# Altium footprint library SamacSys.PcbLib: 9 footprints
Each footprint in its own frame and in the unit in brackets; x right, y up, seen from the top. Pads: shape width x height; smd on the part's side, far side on the other; paste and mask are expansions set on the pad; w line width, h text height; cw(c..) or ccw(c..) is an arc to the next point about the centre after c.
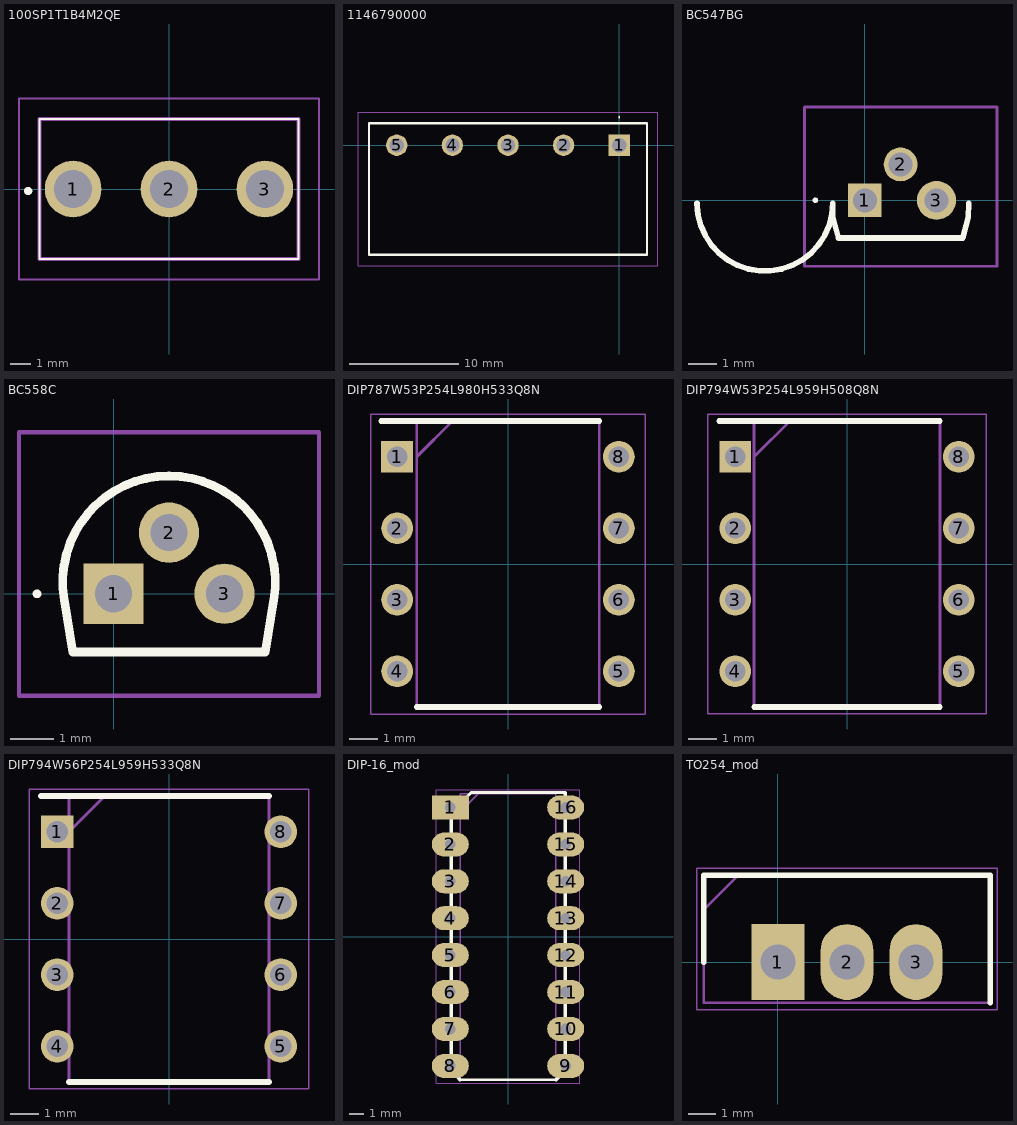
[diagram p0: the footprints below, top view; thin cyan lines are the x and y axes]

## 100SP1T1B4M2QE [mm]
pads (3):
  round 2.775 hole 1.85: 1(-4.7,0) 2(0,0) 3(4.7,0)
Top Overlay:
  lines w0.1: -6.35,-3.43 -6.35,3.43 6.35,3.43 6.35,-3.43 -6.35,-3.43
  lines w0.2: -6.9,-0.2 cw(c-6.9,-0.1) -6.9,0 cw(c-6.9,-0.1) -6.9,-0.2
Mechanical 13:
  lines w0.2: -6.35,-3.43 -6.35,3.43 6.35,3.43 6.35,-3.43 -6.35,-3.43
Mechanical 15:
  lines w0.1: -7.35,-4.43 -7.35,4.43 7.35,4.43 7.35,-4.43 -7.35,-4.43
3D body "100SP1T1B4M2QE.stp": height 29.45, standoff -5.32, extent -6.35,-3.43 6.35,3.43

## 1146790000 [mm]
pads (5):
  rect 1.95x1.95 hole 1.3: 1(0,0)
  round 1.95 hole 1.3: 2(-5.08,0) 3(-10.16,0) 4(-15.24,0) 5(-20.32,0)
Top Overlay:
  lines w0.1: 0,2.5 ccw(c0,2.55) 0,2.6 ccw(c0,2.55) 0,2.5
  lines w0.2: -22.86,-10 -22.86,2 2.54,2 2.54,-10 -22.86,-10
Mechanical 13:
  lines w0.1: -22.86,-10 -22.86,2 2.54,2 2.54,-10 -22.86,-10
Mechanical 15:
  lines w0.1: -23.86,-11 -23.86,3 3.54,3 3.54,-11 -23.86,-11
3D body "1146790000.stp": height 9.09, standoff -2.54, extent -22.76,-10 2.44,2

## BC547BG [mm]
pads (3):
  rect 1.2x1.2 hole 0.85: 1(0,0)
  round 1.2 hole 0.85: 2(1.27,1.27)
  round 1.381 hole 0.85: 3(2.54,0)
Top Overlay:
  lines w0.1: -1.8,0 cw(c-1.75,0) -1.7,0 cw(c-1.75,0) -1.8,0
  lines w0.2: -5.942,-0.1 ccw(c-3.536,-0.1) -1.13,-0.1 -1.13,-0.6 -0.93,-1.335 1.27,-1.335 3.47,-1.335 3.67,-0.6 3.683,-0.1
Mechanical 13:
  lines w0.1: -5.942,-0.1 ccw(c-3.536,-0.1) -1.13,-0.1 -1.13,-0.6 -0.93,-1.335 1.27,-1.335 3.47,-1.335 3.683,-0.6 3.683,-0.1
Mechanical 15:
  lines w0.1: -2.13,-2.335 -2.13,3.306 4.683,3.306 4.683,-2.335 -2.13,-2.335
3D body "BC547BG.stp": height 8.33, standoff -12.62, extent -3.869,-2.51 1.329,1.68

## BC558C [mm]
pads (3):
  rect 1.381x1.381 hole 0.85: 1(0,0)
  round 1.381 hole 0.85: 2(1.27,1.4) 3(2.54,0)
Top Overlay:
  lines w0.1: -1.8,0 cw(c-1.75,0) -1.7,0 cw(c-1.75,0) -1.8,0
  lines w0.2: -1.13,-0.135 -0.93,-1.335 3.47,-1.335 3.67,-0.135 ; -1.13,-0.137 cw(c1.27,0.265) 3.67,-0.132
Mechanical 13:
  lines w0.1: -1.13,-0.135 -0.93,-1.335 3.47,-1.335 3.67,-0.135 ; -1.13,-0.137 cw(c1.27,0.265) 3.67,-0.132
Mechanical 15:
  lines w0.1: -2.163,-2.335 -2.163,3.698 4.703,3.698 4.703,-2.335 -2.163,-2.335
3D body "BC558C.stp": height 0.1, standoff -5, extent -0.325,-0.323 2.865,1.723

## DIP787W53P254L980H533Q8N [mm]
pads (8):
  rect 1.13x1.13 hole 0.73: 1(-3.935,3.81)
  round 1.13 hole 0.73: 2(-3.935,1.27) 3(-3.935,-1.27) 4(-3.935,-3.81) 5(3.935,-3.81) 6(3.935,-1.27) 7(3.935,1.27) 8(3.935,3.81)
Top Overlay:
  lines w0.2: -4.5,5.075 3.24,5.075 ; -3.24,-5.075 3.24,-5.075
Mechanical 13:
  lines w0.1: -3.24,3.805 -1.97,5.075 ; -3.24,-5.075 3.24,-5.075 3.24,5.075 -3.24,5.075 -3.24,-5.075
Mechanical 15:
  lines w0.05: -4.875,-5.325 4.875,-5.325 4.875,5.325 -4.875,5.325 -4.875,-5.325
3D body "LM393N.stp": height 5.33, standoff -3.5, extent -4.068,-4.902 4.068,4.902

## DIP794W53P254L959H508Q8N [mm]
pads (8):
  rect 1.13x1.13 hole 0.73: 1(-3.97,3.81)
  round 1.13 hole 0.73: 2(-3.97,1.27) 3(-3.97,-1.27) 4(-3.97,-3.81) 5(3.97,-3.81) 6(3.97,-1.27) 7(3.97,1.27) 8(3.97,3.81)
Top Overlay:
  lines w0.2: -4.535,5.08 3.3,5.08 ; -3.3,-5.08 3.3,-5.08
Mechanical 13:
  lines w0.1: -3.3,3.81 -2.03,5.08 ; -3.3,-5.08 3.3,-5.08 3.3,5.08 -3.3,5.08 -3.3,-5.08
Mechanical 15:
  lines w0.05: -4.945,-5.33 4.945,-5.33 4.945,5.33 -4.945,5.33 -4.945,-5.33
3D body "TL082ACP.stp": height 4.21, standoff -3.37, extent -4.102,-4.635 4.102,4.635

## DIP794W56P254L959H533Q8N [mm]
pads (8):
  rect 1.16x1.16 hole 0.76: 1(-3.97,3.81)
  round 1.16 hole 0.76: 2(-3.97,1.27) 3(-3.97,-1.27) 4(-3.97,-3.81) 5(3.97,-3.81) 6(3.97,-1.27) 7(3.97,1.27) 8(3.97,3.81)
Top Overlay:
  lines w0.2: -4.55,5.08 3.555,5.08 ; -3.555,-5.08 3.555,-5.08
Mechanical 13:
  lines w0.1: -3.555,3.81 -2.285,5.08 ; -3.555,-5.08 3.555,-5.08 3.555,5.08 -3.555,5.08 -3.555,-5.08
Mechanical 15:
  lines w0.05: -4.96,-5.33 4.96,-5.33 4.96,5.33 -4.96,5.33 -4.96,-5.33
3D body "LM393N.stp": height 5.33, standoff -3.5, extent -4.11,-4.795 4.11,4.795

## DIP-16_mod [mm]
pads (16):
  rect 2.54x1.651 hole 0.73: 1(-3.97,8.89)
  oval 2.54x1.651 hole 0.73: 2(-3.97,6.35) 3(-3.97,3.81) 4(-3.97,1.27) 5(-3.97,-1.27) 6(-3.97,-3.81) 7(-3.97,-6.35) 8(-3.97,-8.89) 9(3.97,-8.89) 10(3.97,-6.35) 11(3.97,-3.81) 12(3.97,-1.27) 13(3.97,1.27) 14(3.97,3.81) 15(3.97,6.35) 16(3.97,8.89)
Top Overlay:
  lines w0.2: -3.898,8.548 -2.54,9.906 3.937,9.906 ; -3.3,-9.845 3.3,-9.845
  lines w0.254: -3.898,8.548 -3.898,-8.401 ccw(c-1.856,-8.401) -3.3,-9.845 ; 3.3,-9.845 ccw(c1.762,-8.307) 3.937,-8.307 3.937,9.906
Mechanical 13:
  lines w0.1: -3.3,8.575 -2.03,9.845 ; -3.3,-9.845 -3.3,9.845 3.3,9.845 3.3,-9.845 -3.3,-9.845
Mechanical 15:
  lines w0.05: -4.945,-10.095 -4.945,10.095 4.945,10.095 4.945,-10.095 -4.945,-10.095
3D body "CD74HC367E.stp": height 5.27, standoff -3.1, extent -3.937,-9.842 3.937,9.842

## TO254_mod [mm]
pads (3):
  rect 1.935x2.794 hole 1.29: 1(0,0)
  oval 1.935x2.794 hole 1.29: 2(2.54,0) 3(5.08,0)
Top Overlay:
  lines w0.2: -2.73,0 -2.73,3.2 7.81,3.2 7.81,-1.5
Mechanical 13:
  lines w0.1: -2.73,1.93 -1.46,3.2 ; -2.73,-1.5 -2.73,3.2 7.81,3.2 7.81,-1.5 -2.73,-1.5
Mechanical 15:
  lines w0.05: -2.98,-1.75 -2.98,3.45 8.06,3.45 8.06,-1.75 -2.98,-1.75
3D body "LM7805CT.stp": height 19.38, standoff -9.27, extent -2.54,-1.432 7.62,3.14